# Altium footprint library passives.PcbLib: 31 footprints (part 1 of 2)
Each footprint in its own frame and in the unit in brackets; x right, y up, seen from the top. Pads: shape width x height; smd on the part's side, far side on the other; paste and mask are expansions set on the pad; w line width, h text height; cw(c..) or ccw(c..) is an arc to the next point about the centre after c.
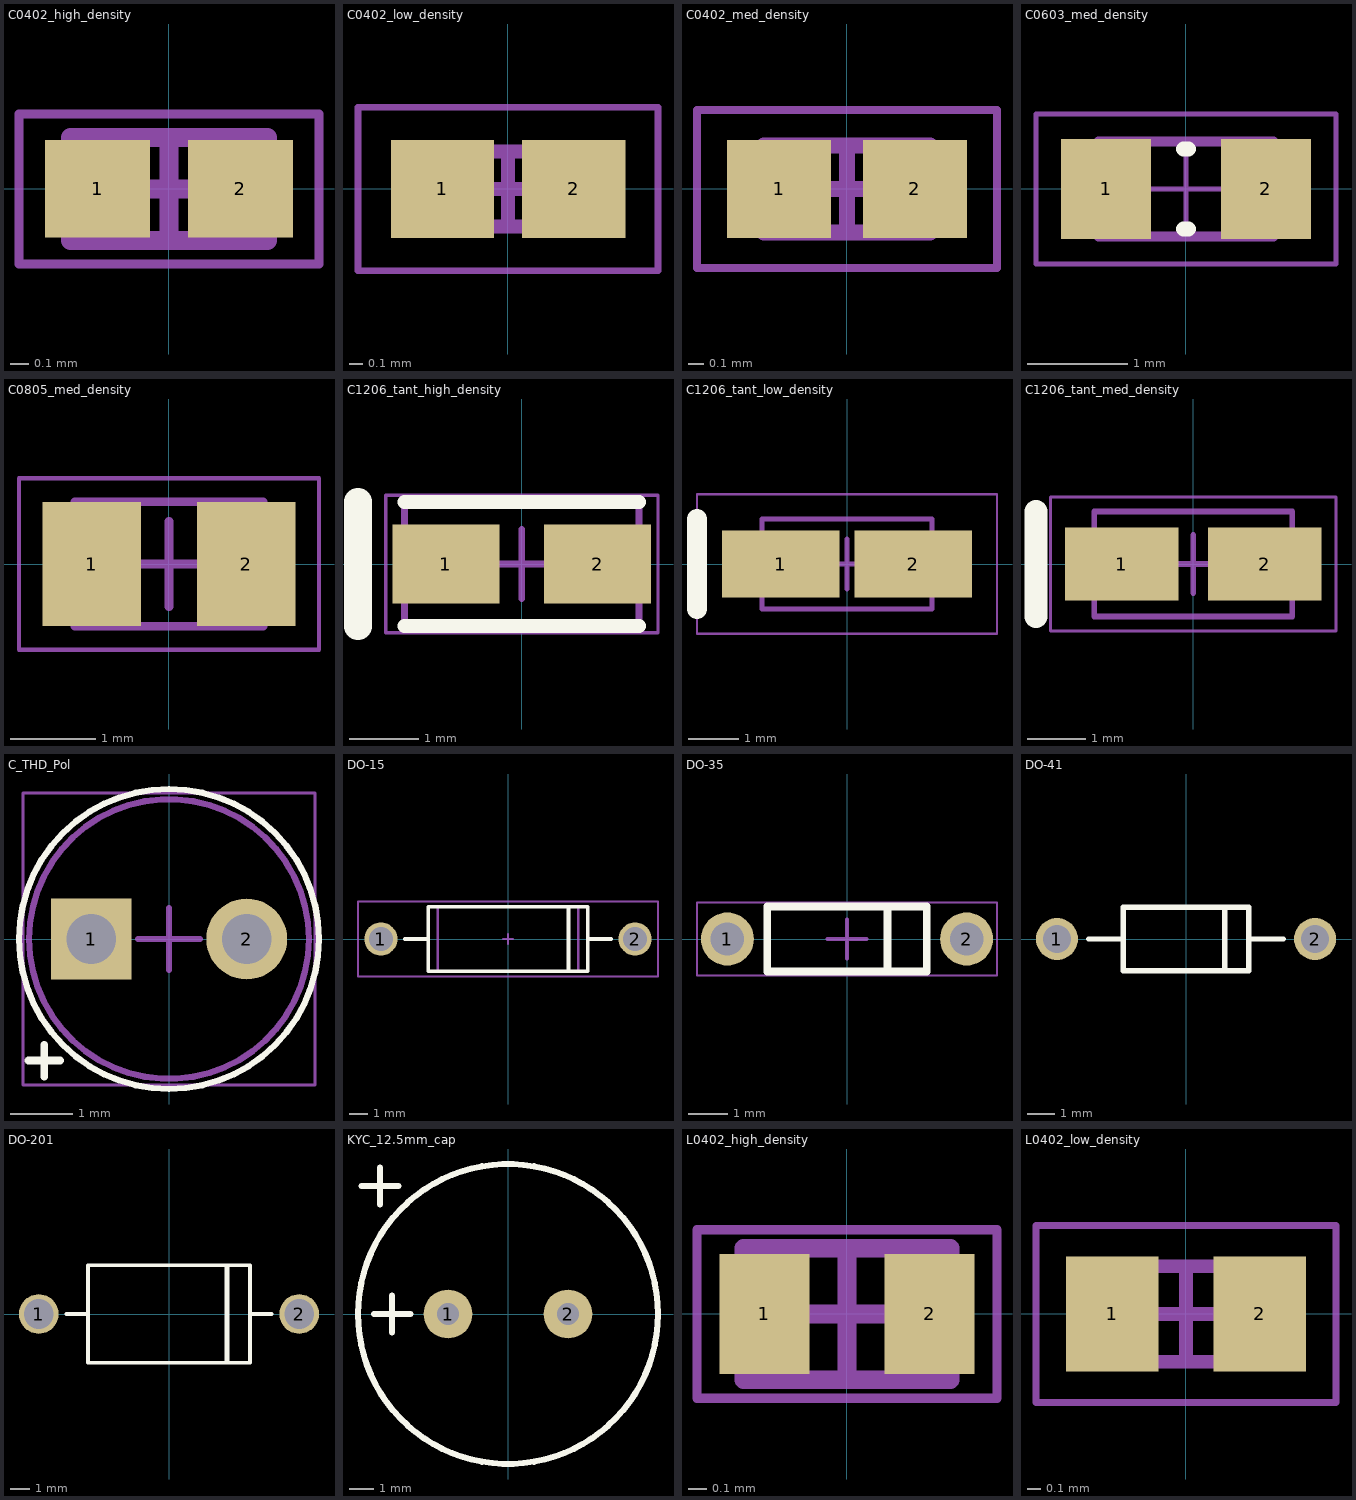
[diagram p0: the footprints below, top view; thin cyan lines are the x and y axes]

## C0402_high_density [mm] "Chip Capacitor, 2-Leads, Body 1.00x0.50mm, IPC High Density"
height 0.6
pads (2):
  rect 0.56x0.52 smd: 1(-0.38,0) 2(0.38,0)
Mechanical 13:
  lines w0.1: -0.525,-0.275 -0.525,0.275 0.525,0.275 0.525,-0.275 -0.525,-0.275
Mechanical 15:
  lines w0.05: -0.8,-0.4 -0.8,0.4 0.8,0.4 0.8,-0.4 -0.8,-0.4
  lines w0.1: -0.275,0 0.275,0 ; 0,-0.275 0,0.275
3D body: height 0.6, standoff 0, extent -0.225,-0.275 0.225,0.275
3D body: height 0.6, standoff 0, extent -0.525,-0.275 -0.225,0.275
3D body: height 0.6, standoff 0, extent 0.225,-0.275 0.525,0.275

## C0402_low_density [mm] "Chip Capacitor, 2-Leads, Body 1.00x0.50mm, IPC Low Density"
height 0.6
pads (2):
  rect 0.758x0.72 smd: 1(-0.481,0) 2(0.481,0)
Mechanical 13:
  lines w0.1: -0.525,-0.275 -0.525,0.275 0.525,0.275 0.525,-0.275 -0.525,-0.275
Mechanical 15:
  lines w0.05: -1.1,-0.6 -1.1,0.6 1.1,0.6 1.1,-0.6 -1.1,-0.6
  lines w0.1: -0.275,0 0.275,0 ; 0,-0.275 0,0.275
3D body: height 0.6, standoff 0, extent -0.225,-0.275 0.225,0.275
3D body: height 0.6, standoff 0, extent -0.525,-0.275 -0.225,0.275
3D body: height 0.6, standoff 0, extent 0.225,-0.275 0.525,0.275

## C0402_med_density [mm] "Chip Capacitor, 2-Leads, Body 1.00x0.50mm, IPC Medium Density"
height 0.6
pads (2):
  rect 0.66x0.62 smd: 1(-0.43,0) 2(0.43,0)
Mechanical 13:
  lines w0.1: -0.525,-0.275 0.525,-0.275 0.525,0.275 -0.525,0.275 -0.525,-0.275
Mechanical 15:
  lines w0.05: -0.95,-0.5 0.95,-0.5 0.95,0.5 -0.95,0.5 -0.95,-0.5
  lines w0.1: -0.275,0 0.275,0 ; 0,-0.275 0,0.275
3D body: height 0.6, standoff 0, extent 0.225,-0.275 0.525,0.275
3D body: height 0.6, standoff 0, extent -0.525,-0.275 -0.225,0.275
3D body: height 0.6, standoff 0, extent -0.225,-0.275 0.225,0.275

## C0603_med_density [mm] "Chip Capacitor, Body 1.6x0.8mm, Height 1.0mm, IPC Medium Density"
height 1
pads (2):
  rect 0.9x1 smd: 1(-0.8,0) 2(0.8,0)
Top Overlay:
  lines w0.152: -0.025,-0.4 0.025,-0.4 ; -0.025,0.4 0.025,0.4
Mechanical 13:
  lines w0.1: -0.875,-0.475 -0.875,0.475 0.875,0.475 0.875,-0.475 -0.875,-0.475
Mechanical 15:
  lines w0.05: -0.475,0 0.475,0 ; 0,-0.475 0,0.475 ; -1.5,-0.75 -1.5,0.75 1.5,0.75 1.5,-0.75 -1.5,-0.75
3D body: height 1, standoff 0, extent -0.525,-0.475 0.525,0.475
3D body: height 1, standoff 0, extent -0.875,-0.475 -0.525,0.475
3D body: height 1, standoff 0, extent 0.525,-0.475 0.875,0.475

## C0805_med_density [mm] "Chip Capacitor, Body 2.0x1.2mm, Height 0.75mm, IPC Medium Density"
height 0.75
pads (2):
  rect 1.15x1.45 smd: 1(-0.9,0) 2(0.9,0)
Mechanical 13:
  lines w0.1: -1.1,-0.725 -1.1,0.725 1.1,0.725 1.1,-0.725 -1.1,-0.725
Mechanical 15:
  lines w0.05: -1.75,-1 -1.75,1 1.75,1 1.75,-1 -1.75,-1
  lines w0.1: -0.5,0 0.5,0 ; 0,-0.5 0,0.5
3D body "User Library-cap0805.STEP": height 0.93, standoff -0.01, extent -1.425,-0.667 1.575,0.733

## C1206_tant_high_density [mm] "Molded TAN Capacitor, 2-Leads, Body 3.4x1.8mm, IPC High Density"
height 1.8
pads (2):
  rect 1.55x1.15 smd: 1(-1.1,0) 2(1.1,0)
Top Overlay:
  lines w0.2: -1.7,-0.9 1.7,-0.9 ; -1.7,0.9 1.7,0.9
  lines w0.4: -2.375,-0.9 -2.375,0.9
Mechanical 13:
  lines w0.1: -1.7,-0.9 1.7,-0.9 1.7,0.9 -1.7,0.9 -1.7,-0.9
Mechanical 15:
  lines w0.05: -1.975,-1 1.975,-1 1.975,1 -1.975,1 -1.975,-1
  lines w0.1: -0.5,0 0.5,0 ; 0,-0.5 0,0.5
3D body: height 1.8, standoff 0, extent -1.7,-0.9 1.7,0.9

## C1206_tant_low_density [mm] "Molded TAN Capacitor, 2-Leads, Body 3.4x1.8mm, IPC Low Density"
height 1.8
pads (2):
  rect 2.35x1.35 smd: 1(-1.325,0) 2(1.325,0)
Top Overlay:
  lines w0.4: -3,-0.9 -3,0.9
Mechanical 13:
  lines w0.1: -1.7,-0.9 1.7,-0.9 1.7,0.9 -1.7,0.9 -1.7,-0.9
Mechanical 15:
  lines w0.05: -3,-1.4 3,-1.4 3,1.4 -3,1.4 -3,-1.4
  lines w0.1: -0.5,0 0.5,0 ; 0,-0.5 0,0.5
3D body: height 1.8, standoff 0, extent -1.7,-0.9 1.7,0.9

## C1206_tant_med_density [mm] "Molded TAN Capacitor, 2-Leads, Body 3.4x1.8mm, IPC Medium Density"
height 1.8
pads (2):
  rect 1.95x1.25 smd: 1(-1.225,0) 2(1.225,0)
Top Overlay:
  lines w0.4: -2.7,-0.9 -2.7,0.9
Mechanical 13:
  lines w0.1: -1.7,-0.9 -1.7,0.9 1.7,0.9 1.7,-0.9 -1.7,-0.9
Mechanical 15:
  lines w0.05: -2.45,-1.15 -2.45,1.15 2.45,1.15 2.45,-1.15 -2.45,-1.15
  lines w0.1: -0.5,0 0.5,0 ; 0,-0.5 0,0.5
3D body: height 1.8, standoff 0, extent -1.7,-0.9 1.7,0.9

## C_THD_Pol [mm] "THD, 2-Leads, Dia 4.5mm, Height 7.5mm"
height 7.5
pads (2):
  rect 1.3x1.3 hole 0.8: 1(-1.25,0)
  round 1.3 hole 0.8: 2(1.25,0)
Top Overlay:
  circle w0.1: c0,0 r2.413
  lines w0.127: -2.261,-1.956 -1.753,-1.956 ; -2.007,-2.21 -2.007,-1.702
Mechanical 13:
  circle w0.1: c0,0 r2.25
Mechanical 15:
  lines w0.05: -2.35,-2.35 2.35,-2.35 2.35,2.35 -2.35,2.35 -2.35,-2.35
  lines w0.1: -0.5,0 0.5,0 ; 0,-0.5 0,0.5
3D body: height 0, standoff -2.5, extent -1.498,-0.249 -1,0.25
3D body: height 0, standoff -2, extent 1.002,-0.249 1.5,0.25
3D body: height 7.5, standoff 0, extent -2.25,-2.246 2.25,2.247

## DO-15 [mm] "AXIAL, 2-Leads, Diameter 3.49mm"
height 3.49
pads (2):
  round 1.8 hole 1.3: 1(-6.887,0) 2(6.887,0)
Top Overlay:
  lines w0.2: -5.587,0 -4.317,0 ; 3.278,-1.745 3.278,1.745 ; 4.317,0 5.587,0 ; -4.317,-1.745 -4.317,1.745 4.317,1.745 4.317,-1.745 -4.317,-1.745
Mechanical 13:
  lines w0.127: -3.81,-1.778 3.81,-1.778 3.81,1.778 -3.81,1.778 -3.81,-1.778
Mechanical 15:
  lines w0.127: -0.254,0 0.254,0 ; 0,-0.254 0,0.254 ; -8.128,-2.032 -8.128,2.032 8.128,2.032 8.128,-2.032 -8.128,-2.032

## DO-35 [mm] "TH, 2-Leads, Dia 1.665mm, Body 4.065x1.665mm"
height 1.665
pads (2):
  round 1.35 hole 0.85: 1(-3.049,0) 2(3.049,0)
Top Overlay:
  lines w0.2: 1.033,-0.833 1.033,0.833 ; -2.032,-0.833 2.033,-0.833 2.033,0.833 -2.032,0.833 -2.032,-0.833
Mechanical 13:
  lines w0.1: -2.032,-0.833 -2.032,0.833 2.033,0.833 2.033,-0.833 -2.032,-0.833
Mechanical 15:
  lines w0.05: -3.824,-0.933 -3.824,0.933 3.824,0.933 3.824,-0.933 -3.824,-0.933
  lines w0.1: -0.5,0 0.5,0 ; 0,-0.5 0,0.5
3D body: height 1.11, standoff 0.55, extent 2.033,-0.28 3.049,0.28
3D body: height 1.67, standoff 0, extent -2.032,-0.832 2.033,0.833
3D body: height 0.83, standoff -2, extent -3.329,-0.304 -2.769,0.255
3D body: height 1.11, standoff 0.55, extent -3.328,-0.305 -2.769,0.255
3D body: height 0.83, standoff -2, extent 2.769,-0.28 3.329,0.28
3D body: height 1.11, standoff 0.55, extent 2.769,-0.28 3.329,0.28
3D body: height 1.11, standoff 0.55, extent -3.049,-0.305 -2.033,0.255

## DO-41 [mm] "AXIAL, 2-Leads, Diameter 2.35mm nominal"
height 2.35
pads (2):
  round 1.55 hole 1.05: 1(-4.77,0) 2(4.77,0)
Top Overlay:
  lines w0.2: -3.595,0 -2.325,0 ; 1.434,-1.175 1.434,1.175 ; 2.325,0 3.595,0 ; -2.325,-1.175 2.325,-1.175 2.325,1.175 -2.325,1.175 -2.325,-1.175

## DO-201 [mm] "AXIAL, 2-Leads, Diameter 5.05mm"
height 5.05
pads (2):
  round 2.05 hole 1.55: 1(-6.745,0) 2(6.745,0)
Top Overlay:
  lines w0.2: -5.32,0 -4.2,0 ; 4.2,0 5.32,0 ; -4.2,-2.525 4.2,-2.525 4.2,2.525 -4.2,2.525 -4.2,-2.525
  lines w0.254: 2.997,-2.413 2.997,2.413

## KYC_12.5mm_cap [mil] "KYC though hole electrolytic cap in 12.5mm diameter case. 0.6mm lead diameter. 5.0mm +- 0.5mm Lead spacing"
pads (2):
  round 80 hole 36: 1(-98.43,0) 2(98.43,0)
Top Overlay:
  circle w10: c0,0 r246.06
  lines w10: -240,210 -180,210 ; -220,0 -160,0 ; -210,180 -210,240 ; -190,-30 -190,30
3D body: height 1181.1, standoff 0, extent -246.06,-245.91 246.06,245.91

## L0402_high_density [mm] "Chip Inductor, 2-Leads, Body 1.1x0.7mm, IPC High Density"
height 0.6
pads (2):
  rect 0.48x0.64 smd: 1(-0.44,0) 2(0.44,0)
Mechanical 13:
  lines w0.1: -0.55,-0.35 -0.55,0.35 0.55,0.35 0.55,-0.35 -0.55,-0.35
Mechanical 15:
  lines w0.05: -0.8,-0.45 -0.8,0.45 0.8,0.45 0.8,-0.45 -0.8,-0.45
  lines w0.1: -0.35,0 0.35,0 ; 0,-0.35 0,0.35
3D body "INDC1006X06L.step": height 0.6, standoff 0, extent -0.55,-0.35 0.55,0.35

## L0402_low_density [mm] "Chip Inductor, 2-Leads, Body 1.1x0.7mm, IPC Low Density"
height 0.6
pads (2):
  rect 0.68x0.84 smd mask+0.102: 1(-0.54,0) 2(0.54,0)
Mechanical 13:
  lines w0.1: -0.55,-0.35 -0.55,0.35 0.55,0.35 0.55,-0.35 -0.55,-0.35
Mechanical 15:
  lines w0.05: -1.1,-0.65 -1.1,0.65 1.1,0.65 1.1,-0.65 -1.1,-0.65
  lines w0.1: -0.35,0 0.35,0 ; 0,-0.35 0,0.35
3D body "INDC1006X06M.step": height 0.6, standoff 0, extent -0.55,-0.35 0.55,0.35